# EAGLE library part 2600-06 (library Header and Connector)
2600 PCB Connector - 6 Ways Created by: Wai Weng
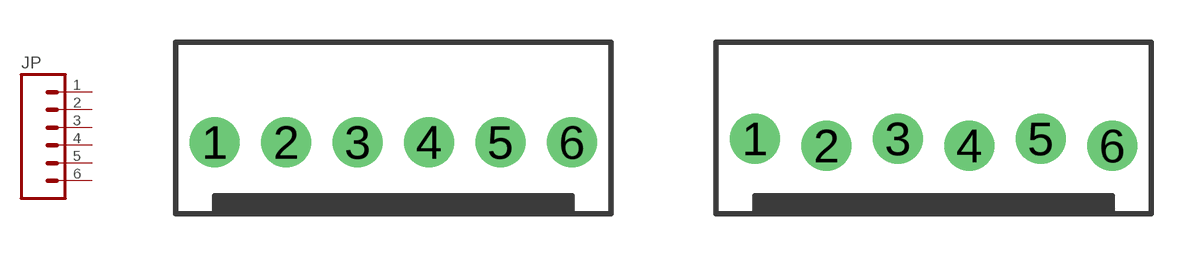
[diagram p24: symbol with the pads of 2600-06; footprints 2600-06, 2600-06-LOCK]

Designator prefix JP

## 2600-06_(NORMAL) (CYTRON-PC: CN-2600PS-06; DESC: 2600 PCB Connector; REMARK: Related Product: CN-2510H-06 (2510 Connector Housing); VALUE: 6 ways)  [2600-06]
1  1  pas
2  2  pas
3  3  pas
4  4  pas
5  5  pas
6  6  pas

## 2600-06_(LOCK) (CYTRON-PC: CN-2600PS-06; DESC: 2600 PCB Connector; REMARK: Related Product: CN-2510H-06 (2510 Connector Housing); VALUE: 6 ways)  [2600-06-LOCK]
Pads as for 2600-06

## Footprint 2600-06 (pad centres in mm)
2600 PCB Connector - 6 Ways Created by: Wai Weng
drill 1.016 pad 1.778: 1 0,0; 2 2.54,0; 3 5.08,0; 4 7.62,0; 5 10.16,0; 6 12.7,0

## Footprint 2600-06-LOCK (pad centres in mm)
2600 PCB Connector - 6 Ways (Pad shifted 5mil to lock the header during soldering) Created by: Wai Weng
drill 1.016 pad 1.778: 1 0,0.127; 2 2.54,-0.127; 3 5.08,0.127; 4 7.62,-0.127; 5 10.16,0.127; 6 12.7,-0.127